# Altium schematic symbol library STM32_PLC.SCHLIB: 189 symbols (part 4 of 4)
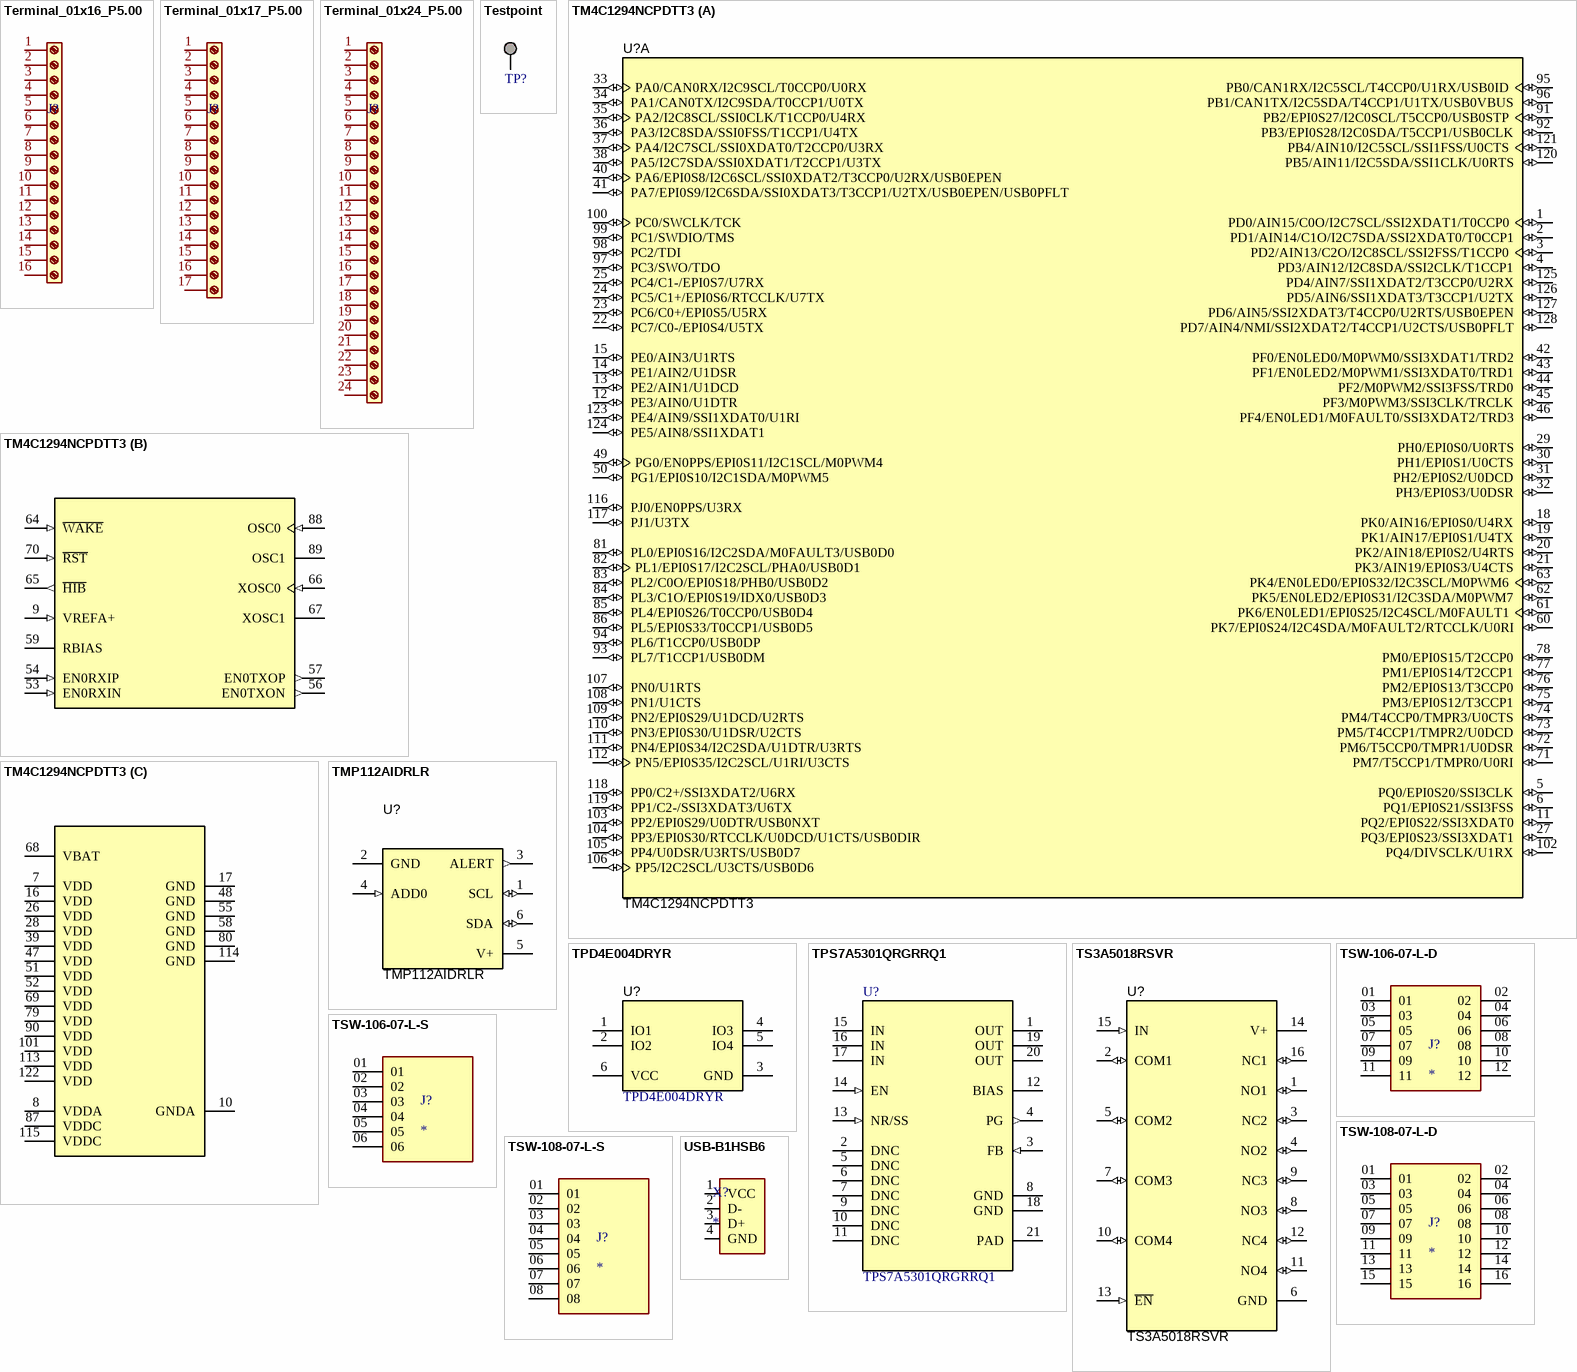
[diagram p8: symbols Terminal_01x16_P5.00 to USB-B1HSB6]

## TM4C1294NCPDTT3
designator U?
Tiva C Series Microcontroller, 1024 KB Flash, 256 KB SRAM, 12 Bit, 20 Channels, -40 to 105 degC, 128-Pin TQFP (PDT), Green (RoHS & no Sb/Br), Tray; Manufacturer: Texas Instruments; ADC Channels: 20; CPU: ARM Cortex-M4; Flash: 1024 KB; ADC Resolution: 12 Bits; Max Speed: 120 MHz; SRAM: 256 KB; SizeAreaWB_mm2: 324.0; SizeArea_mm2: 256.0; SizeX_mm: 16.0; SizeZ_mm: 1.2; CompType: IC; PackageDescription: 128-Pin Thin Quad Flat Package, Body 14 x 14 mm, Pitch 0.4 mm; Mounting Technology: Surface Mount; ComponentLink3URL: http://www.ti.com/lit/ml/mpqf013/mpqf013.pdf; ComponentLink2Description: Datasheet; Packing: Tray; ComponentLink2URL: http://www.ti.com/lit/ds/symlink/tm4c1294ncpdt.pdf; ComponentLink1URL: http://www.ti.com/; PackageVersion: 4087726/A; ComponentLink3Description: Package Specification; DatasheetVersion: 15863.2743; ComponentLink1Description: Manufacturer URL; PackageReference: PDT0128A; Temperature Range: -40 to 105 degC; Eco-Plan: Green (RoHS & no Sb/Br); SizeY_mm: 16.0; MountType: SMT; PartId: 1; PartNumber: TM4C1294NCPDTT3
footprint PDT0128A (Thin QFP, 128-Leads, Body 14x14mm, Pitch 0.4mm)
part A pins: 1 PD0/AIN15/C0O/I2C7SCL/SSI2XDAT1/T0CCP0 (io), 2 PD1/AIN14/C1O/I2C7SDA/SSI2XDAT0/T0CCP1 (io), 3 PD2/AIN13/C2O/I2C8SCL/SSI2FSS/T1CCP0 (io), 4 PD3/AIN12/I2C8SDA/SSI2CLK/T1CCP1 (io), 5 PQ0/EPI0S20/SSI3CLK (io), 6 PQ1/EPI0S21/SSI3FSS (io), 11 PQ2/EPI0S22/SSI3XDAT0 (io), 12 PE3/AIN0/U1DTR (io), 13 PE2/AIN1/U1DCD (io), 14 PE1/AIN2/U1DSR (io), 15 PE0/AIN3/U1RTS (io), 18 PK0/AIN16/EPI0S0/U4RX (io), 19 PK1/AIN17/EPI0S1/U4TX (io), 20 PK2/AIN18/EPI0S2/U4RTS (io), 21 PK3/AIN19/EPI0S3/U4CTS (io), 22 PC7/C0-/EPI0S4/U5TX (io), 23 PC6/C0+/EPI0S5/U5RX (io), 24 PC5/C1+/EPI0S6/RTCCLK/U7TX (io), 25 PC4/C1-/EPI0S7/U7RX (io), 27 PQ3/EPI0S23/SSI3XDAT1 (io), 29 PH0/EPI0S0/U0RTS (io), 30 PH1/EPI0S1/U0CTS (io), 31 PH2/EPI0S2/U0DCD (io), 32 PH3/EPI0S3/U0DSR (io), 33 PA0/CAN0RX/I2C9SCL/T0CCP0/U0RX (io), 34 PA1/CAN0TX/I2C9SDA/T0CCP1/U0TX (io), 35 PA2/I2C8SCL/SSI0CLK/T1CCP0/U4RX (io), 36 PA3/I2C8SDA/SSI0FSS/T1CCP1/U4TX (io), 37 PA4/I2C7SCL/SSI0XDAT0/T2CCP0/U3RX (io), 38 PA5/I2C7SDA/SSI0XDAT1/T2CCP1/U3TX (io), 40 PA6/EPI0S8/I2C6SCL/SSI0XDAT2/T3CCP0/U2RX/USB0EPEN (io), 41 PA7/EPI0S9/I2C6SDA/SSI0XDAT3/T3CCP1/U2TX/USB0EPEN/USB0PFLT (io), 42 PF0/EN0LED0/M0PWM0/SSI3XDAT1/TRD2 (io), 43 PF1/EN0LED2/M0PWM1/SSI3XDAT0/TRD1 (io), 44 PF2/M0PWM2/SSI3FSS/TRD0 (io), 45 PF3/M0PWM3/SSI3CLK/TRCLK (io), 46 PF4/EN0LED1/M0FAULT0/SSI3XDAT2/TRD3 (io), 49 PG0/EN0PPS/EPI0S11/I2C1SCL/M0PWM4 (io), 50 PG1/EPI0S10/I2C1SDA/M0PWM5 (io), 60 PK7/EPI0S24/I2C4SDA/M0FAULT2/RTCCLK/U0RI (io), 61 PK6/EN0LED1/EPI0S25/I2C4SCL/M0FAULT1 (io), 62 PK5/EN0LED2/EPI0S31/I2C3SDA/M0PWM7 (io), 63 PK4/EN0LED0/EPI0S32/I2C3SCL/M0PWM6 (io), 71 PM7/T5CCP1/TMPR0/U0RI (io), 72 PM6/T5CCP0/TMPR1/U0DSR (io), 73 PM5/T4CCP1/TMPR2/U0DCD (io), 74 PM4/T4CCP0/TMPR3/U0CTS (io), 75 PM3/EPI0S12/T3CCP1 (io), 76 PM2/EPI0S13/T3CCP0 (io), 77 PM1/EPI0S14/T2CCP1 (io), 78 PM0/EPI0S15/T2CCP0 (io), 81 PL0/EPI0S16/I2C2SDA/M0FAULT3/USB0D0 (io), 82 PL1/EPI0S17/I2C2SCL/PHA0/USB0D1 (io), 83 PL2/C0O/EPI0S18/PHB0/USB0D2 (io), 84 PL3/C1O/EPI0S19/IDX0/USB0D3 (io), 85 PL4/EPI0S26/T0CCP0/USB0D4 (io), 86 PL5/EPI0S33/T0CCP1/USB0D5 (io), 91 PB2/EPI0S27/I2C0SCL/T5CCP0/USB0STP (io), 92 PB3/EPI0S28/I2C0SDA/T5CCP1/USB0CLK (io), 93 PL7/T1CCP1/USB0DM (io), 94 PL6/T1CCP0/USB0DP (io), 95 PB0/CAN1RX/I2C5SCL/T4CCP0/U1RX/USB0ID (io), 96 PB1/CAN1TX/I2C5SDA/T4CCP1/U1TX/USB0VBUS (io), 97 PC3/SWO/TDO (io), 98 PC2/TDI (io), 99 PC1/SWDIO/TMS (io), 100 PC0/SWCLK/TCK (io), 102 PQ4/DIVSCLK/U1RX (io), 103 PP2/EPI0S29/U0DTR/USB0NXT (io), 104 PP3/EPI0S30/RTCCLK/U0DCD/U1CTS/USB0DIR (io), 105 PP4/U0DSR/U3RTS/USB0D7 (io), 106 PP5/I2C2SCL/U3CTS/USB0D6 (io), 107 PN0/U1RTS (io), 108 PN1/U1CTS (io), 109 PN2/EPI0S29/U1DCD/U2RTS (io), 110 PN3/EPI0S30/U1DSR/U2CTS (io), 111 PN4/EPI0S34/I2C2SDA/U1DTR/U3RTS (io), 112 PN5/EPI0S35/I2C2SCL/U1RI/U3CTS (io), 116 PJ0/EN0PPS/U3RX (io), 117 PJ1/U3TX (io), 118 PP0/C2+/SSI3XDAT2/U6RX (io), 119 PP1/C2-/SSI3XDAT3/U6TX (io), 120 PB5/AIN11/I2C5SDA/SSI1CLK/U0RTS (io), 121 PB4/AIN10/I2C5SCL/SSI1FSS/U0CTS (io), 123 PE4/AIN9/SSI1XDAT0/U1RI (io), 124 PE5/AIN8/SSI1XDAT1 (io), 125 PD4/AIN7/SSI1XDAT2/T3CCP0/U2RX (io), 126 PD5/AIN6/SSI1XDAT3/T3CCP1/U2TX (io), 127 PD6/AIN5/SSI2XDAT3/T4CCP0/U2RTS/USB0EPEN (io), 128 PD7/AIN4/NMI/SSI2XDAT2/T4CCP1/U2CTS/USB0PFLT (io)
part B pins: 9 VREFA+ (in) "A reference voltage used to specify the voltage at which the ADC converts to a maximum value.", 53 EN0RXIN (in) "Ethernet PHY negative receive differential input.", 54 EN0RXIP (in) "Ethernet PHY positive receive differential input.", 56 EN0TXON (out) "Ethernet PHY negative transmit differential output.", 57 EN0TXOP (out) "Ethernet PHY positive transmit differential output.", 59 RBIAS "4.87-kOhm resistor (1% precision) for Ethernet PHY.", 64 ~{WAKE} (in) "An external input that brings the processor out of Hibernate mode when asserted.", 65 ~{HIB} (out) "An output that indicates the processor is in Hibernate mode.", 66 XOSC0 (in) "Hibernation module oscillator crystal input or an external clock reference input. Note that this is either a crystal or a 32.768-kHz oscillator for the Hibernation module RTC.", 67 XOSC1 "Hibernation module oscillator crystal output. Leave unconnected when using a single-ended clock source.", 70 ~{RST} (in) "System reset input.", 88 OSC0 (in) "Main oscillator crystal input or an external clock reference input.", 89 OSC1 "Main oscillator crystal output. Leave unconnected when using a single-ended clock source."
part C pins: 7 VDD (power) "Positive supply for I/O and some logic.", 8 VDDA (power) "The positive supply for the analog circuits (ADC, Analog Comparators, etc.).", 10 GNDA (power) "The ground reference for the analog circuits (ADC, Analog Comparators, etc.).", 16 VDD (power) "Positive supply for I/O and some logic.", 17 GND (power) "Ground reference for logic and I/O pins.", 26 VDD (power) "Positive supply for I/O and some logic.", 28 VDD (power) "Positive supply for I/O and some logic.", 39 VDD (power) "Positive supply for I/O and some logic.", 47 VDD (power) "Positive supply for I/O and some logic.", 48 GND (power) "Ground reference for logic and I/O pins.", 51 VDD (power) "Positive supply for I/O and some logic.", 52 VDD (power) "Positive supply for I/O and some logic.", 55 GND (power) "Ground reference for logic and I/O pins.", 58 GND (power) "Ground reference for logic and I/O pins.", 68 VBAT (power) "Power source for the Hibernation module. It is normally connected to the positive terminal of a battery and serves as the battery backup/Hibernation module power-source supply.", 69 VDD (power) "Positive supply for I/O and some logic.", 79 VDD (power) "Positive supply for I/O and some logic.", 80 GND (power) "Ground reference for logic and I/O pins.", 87 VDDC (power) "Positive supply for most of the logic function, including the processor core and most peripherals.", 90 VDD (power) "Positive supply for I/O and some logic.", 101 VDD (power) "Positive supply for I/O and some logic.", 113 VDD (power) "Positive supply for I/O and some logic.", 114 GND (power) "Ground reference for logic and I/O pins.", 115 VDDC (power) "Positive supply for most of the logic function, including the processor core and most peripherals.", 122 VDD (power) "Positive supply for I/O and some logic."

## TMP112AIDRLR
designator U?
1.4V-Capable +/-0.5degC Temperature Sensor with Alert Function and I2C/SMBus interface in SOT-563, DRL0006A (SOT-OTHER-6); Alternate PartNumber: TMP112AIDRLT; Alternate Manufacturer: Texas Instruments; Green_Lifecycle: Active; SizeAreaWB_mm2: 6.76; Green_REACh: Passed; U/M: EA; SizeZ_mm: 0.6; SizeX_mm: 1.6; SizeArea_mm2: 2.56; CompType: IC; ComponentLink1URL: http://www.ti.com/lit/ds/symlink/tmp112.pdf; Publisher: Texas Instruments; PackageDescription: SOT-OTHER-6; RoHS: Y; MountType: SMT; Green_EU RoHS-2: Passed; Manufacturer: Texas Instruments; Green_EU RoHS: Passed; PackageReference: DRL0006A; SizeY_mm: 1.6; LatestRevisionDate: 2017-06-09; ComponentLink1Description: Datasheet Link; PartNumber: TMP112AIDRLR
footprint DRL0006A (SOTFL, 6-Flat Leads, Body 1.2x1.6x0.6mm, Pitch 0.5mm, TI recommended)
pins: 1 SCL (io), 2 GND (power), 3 ALERT (out), 4 ADD0 (in), 5 V+ (power), 6 SDA (io)
2 alternate drawings of the same symbol

## TPD4E004DRYR
designator U?
4-Channel ESD Protection Array for High-Speed Data Interfaces, DRY0006A (USON-6); Manufacturer: Texas Instruments; IO Leakage Current(nA): 1; USB High Speed: TRUE; IO Capacitance(Typ)(pF): 1.6; Eco-Plan: Green (RoHS & no Sb/Br); IEC 61000-4-2 Contact(+/- kV): 8; Breakdown Voltage(Min)(V): 6; IEC 61000-4-2 Air-Gap(+/- kV): 12; AEC Category: Q200; AEC Qualified: N; CompType: IC; SizeArea_mm2: 1.45; SizeAreaWB_mm2: 4.9; SizeX_mm: 1.0; SizeZ_mm: 0.6; Rating: Catalog; ComponentLink3URL: http://www.ti.com/product/tpd4e004/datasheet; ComponentLink1Description: Datasheet Link; ComponentLink2URL: http://www.ti.com/product/tpd4e004; ComponentLink1URL: http://www.ti.com/lit/ds/symlink/tpd4e004.pdf; PackageDescription: USON-6; 1394 / Firewire: TRUE; PackageReference: DRY0006A; ComponentLink3Description: Online Datasheet; ComponentLink2Description: Product Folder; Serial ATA / eSATA: TRUE; MountType: SMT; RoHS: Y; SizeY_mm: 1.45; Operating Temperature Range: -40 to 85 C; PartNumber: TPD4E004DRYR
footprint DRY0006A (USON-6)
pins: 1 IO1 "ESD-protected channel", 2 IO2 "ESD-protected channel", 3 GND (power) "Ground", 4 IO3 "ESD-protected channel", 5 IO4 "ESD-protected channel", 6 VCC (power) "Power-supply input"

## TPS7A5301QRGRRQ1
designator U?
Automotive 3A High-Accuracy Low-Noise Low-Dropout (LDO) Voltage Regulator, RGR0020A (VQFN-20); Manufacturer: Texas Instruments; SizeAreaWB_mm2: 20.25; SizeZ_mm: 1.0; SizeX_mm: 3.5; SizeArea_mm2: 12.25; CompType: IC; AEC Qualified: Y; AEC Category: Q200; ComponentLink1URL: http://www.ti.com/lit/ds/symlink/tps7a53-q1.pdf; PackageDescription: VQFN-20; MountType: SMT; ComponentLink2URL: http://www.ti.com/product/tps7a53-q1; ComponentLink2Description: Product Folder; PackageReference: RGR0020A; SizeY_mm: 3.5; ComponentLink1Description: Datasheet Link; ComponentLink3Description: Online Datasheet; ComponentLink3URL: http://www.ti.com/product/tps7a53-q1/datasheet; RoHS: Y; PartNumber: TPS7A5301QRGRRQ1
footprint RGR0020A (QFN, 20-Leads, Body 3.5x3.5mm, Pitch 0.5mm, Thermal Pad 2.05x2.05mm, TI Recommended)
footprint RGR0020A_NV (QFN, 20-Leads, Body 3.5x3.5mm, Pitch 0.5mm, Thermal Pad 2.05x2.05mm, TI Recommended)
pins: 1 OUT (power), 2 DNC, 3 FB (in), 4 PG (out), 5 DNC, 6 DNC, 7 DNC, 8 GND (power), 9 DNC, 10 DNC, 11 DNC, 12 BIAS, 13 NR/SS (in), 14 EN (in), 15 IN (power), 16 IN (power), 17 IN (power), 18 GND (power), 19 OUT (power), 20 OUT (power), 21 PAD

## TS3A5018RSVR
designator U?
10-Ohm Quad SPDT Analog Switch, RSV0016A (UQFN-16); Alternate Manufacturer: Texas Instruments; SizeAreaWB_mm2: 10.08; U/M: EA; SizeZ_mm: 0.55; SizeX_mm: 1.8; SizeY_mm: 2.6; SizeArea_mm2: 4.68; CompType: IC; ComponentLink1URL: http://www.ti.com/lit/ds/symlink/ts3a5018.pdf; Publisher: Texas Instruments; PackageDescription: UQFN-16; RoHS: Y; Footprint Path 6: C:\AltiumLibraries\Footprints\TI\.PcbLib; MountType: SMT; Manufacturer: Texas Instruments; PackageReference: RSV0016A; LatestRevisionDate: 2017-06-09; ComponentLink1Description: Datasheet Link; PartNumber: TS3A5018RSVR
footprint RSV0016A (QFN, 16-Leads, Body 1.8x2.6mm, Pitch 0.4mm, TI Recommended)
pins: 1 NO1 (io), 2 COM1 (io), 3 NC2 (io), 4 NO2 (io), 5 COM2 (io), 6 GND (power), 7 COM3 (io), 8 NO3 (io), 9 NC3 (io), 10 COM4 (io), 11 NO4 (io), 12 NC4 (io), 13 ~{EN} (in), 14 V+ (power), 15 IN (in), 16 NC1 (io)

## TSW-106-07-L-D
designator J?
MP: TSW-108-07-L-D; MF: Samtec; Price: None; Availability: Unavailable; Value: *; Package: None
footprint SAMTEC_TSW-106-07-L-D
pins: 01, 02, 03, 04, 05, 06, 07, 08, 09, 10, 11, 12

## TSW-106-07-L-S
designator J?
MP: TSW-106-07-L-S; MF: Samtec Inc.; Package: None; Price: None; Value: *; Availability: Unavailable
footprint SAMTEC_TSW-106-07-L-S
pins: 01, 02, 03, 04, 05, 06

## TSW-108-07-L-D
designator J?
MP: TSW-108-07-L-D; MF: Samtec; Price: None; Availability: Unavailable; Value: *; Package: None
footprint SAMTEC_TSW-108-07-L-D
pins: 01, 02, 03, 04, 05, 06, 07, 08, 09, 10, 11, 12, 13, 14, 15, 16

## TSW-108-07-L-S
designator J?
MF: Samtec Inc.; MP: TSW-108-07-L-S; Availability: Unavailable; Price: None; Package: None; Value: *
footprint SAMTEC_TSW-108-07-L-S
pins: 01, 02, 03, 04, 05, 06, 07, 08

## USB-B1HSB6
designator X?
USB-B (USB TYPE-B) - Receptacle Connector 4 Position Through Hole, Right Angle; MF: On Shore; MP: USB-B1HSB6; Check_prices: https://www.snapeda.com/parts/USB-B1HSB6/On+Shore+Technology+Inc./view-part/?ref=eda; Value: *; Purchase-URL: https://pricing.snapeda.com/search/part/USB-B1HSB6/?ref=eda; Price: None; SnapEDA_Link: https://www.snapeda.com/parts/USB-B1HSB6/On+Shore+Technology+Inc./view-part/?ref=snap; Availability: In Stock; Package: None
footprint OST_USB-B1HSB6
pins: 1 VCC (power), 2 D- (io), 3 D+ (io), 4 GND (power)